# Altium schematic symbol library pth-diode.SchLib: 1 symbol
Pins are listed as number, name and electrical type; pins without a type are passive.

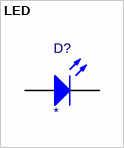
[diagram p0: symbol LED]

## LED
designator D?
LED PTH 3mm; PN: *; ExtraInfo: *
footprint LED 3MM
pins: A, K